# Altium footprint library IC_ROHM_BU4230FVE-TR.PcbLib: 1 footprints
Each footprint in its own frame and in the unit in brackets; x right, y up, seen from the top. Pads: shape width x height; smd on the part's side, far side on the other; paste and mask are expansions set on the pad; w line width, h text height; cw(c..) or ccw(c..) is an arc to the next point about the centre after c.
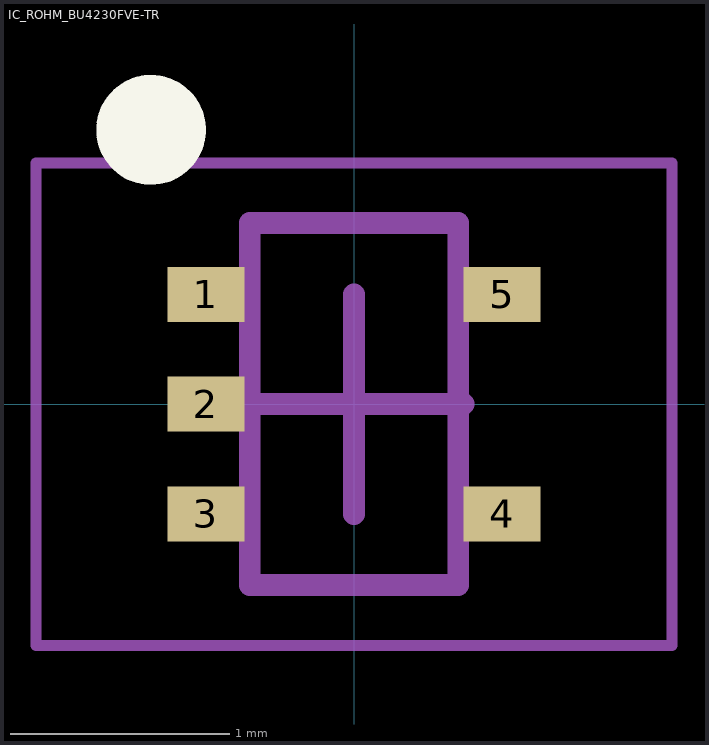
[diagram p0: the footprint, top view; thin cyan lines are the x and y axes]

## IC_ROHM_BU4230FVE-TR [mm]
height 0.6
pads (5):
  rect 0.35x0.25 smd mask+0.04: 1(-0.675,0.5) 2(-0.675,0) 3(-0.675,-0.5) 4(0.675,-0.5) 5(0.675,0.5)
Top Overlay:
  circle w0.25: c-0.925,1.25 r0.125
Mechanical 13:
  lines w0.1: -0.475,-0.825 0.475,-0.825 0.475,0.825 -0.475,0.825 -0.475,-0.825
Mechanical 15:
  lines w0.05: -1.45,-1.1 -1.45,1.1 1.45,1.1 1.45,-1.1 -1.45,-1.1
  lines w0.1: -0.5,0 0.5,0 ; 0,-0.5 0,0.5
3D body "VSOF5_ROM.step": height 0.61, standoff 0, extent -0.8,-0.8 0.8,0.8